# Altium integrated library pca10004.IntLib: 24 symbols
Pins are listed as number, name and electrical type; pins without a type are passive.

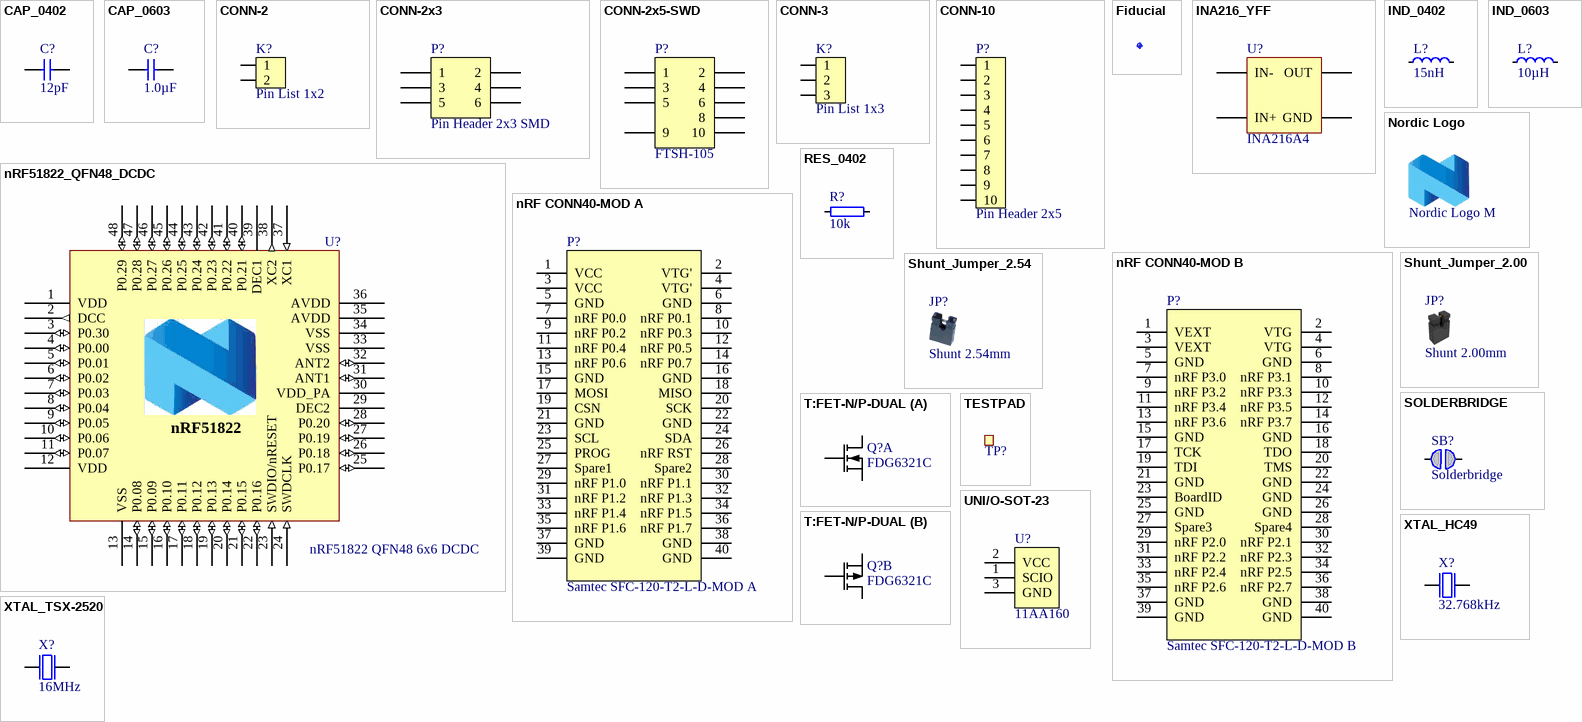
[diagram p0: symbols CAP_0402 to XTAL_TSX-2520]

## CAP_0402
designator C?, comment 12pF
Capacitor, NP0, ±2%; Part Number: C0402-12p; Note: 50V; Artikkelnr Noca: 20029159; Manufacturer: *; Manufacturer Part Number: *; Datasheet: *; Footprint: 0402; LatestRevisionDate: 2011-05-11; Pin Count: 2; Publisher: Nordic Semiconductor; Published: 2009-05-08; Value: 12pF; Supplier: *; Supplier part number: *; 2nd source Supplier: *; 2nd source part number: *
footprint CAPC1005X04L
pins: 1, 2

## CAP_0603
designator C?, comment 1.0µF
Capacitor, X5R, ±10%; Part Number: C0603-1µ0; Note: 10V; Artikkelnr Noca: 20039205; Manufacturer: *; Manufacturer Part Number: *; Datasheet: *; Footprint: 0603; LatestRevisionDate: 2009-11-23; Pin Count: 2; Publisher: Nordic Semiconductor; Published: 2009-05-08; Value: 1.0µF; Supplier: *; Supplier part number: *; 2nd source Supplier: *; 2nd source part number: *
footprint CAPC1608X06L
pins: 1, 2

## CONN-2
designator K?, comment Pin List 1x2
Pin List 1x2, 2.54mm (100mil); Artikkelnr Noca: 56019040; Part Number: Pin List 1x2; Manufacturer: *; Manufacturer Part Number: *; Datasheet: *; Footprint: LIST_1x2; LatestRevisionDate: 2009-12-12; Pin Count: 2; Publisher: Nordic Semiconductor; Published: 2009-12-12; Value: Pin List 1x2; Note: *; Supplier: *; Supplier part number: *; 2nd source Supplier: *; 2nd source part number: *
footprint LIST_1x2
pins: 1, 2

## CONN-2x3
designator P?, comment Pin Header 2x3 SMD
Pin Header 2x3, SMD, 2.0mm; Part Number: Pin Header 2x3 SMD 2.0mm; Manufacturer: Sullins Connector Solutions; Manufacturer Part Number: NRPN032MAMP-RC; Artikkelnr Noca: 55019103; Datasheet: http://www.sullinscorp.com/catalogs/74_Page74-75_HEADER_.079_2mm_MALE.pdf; Footprint: HDR-2x3-SMD-2.0mm; LatestRevisionDate: 2010-02-24; Pin Count: 6; Publisher: Nordic Semiconductor; Published: 2010-02-24; Value: Pin Header 2x3 SMD; Note: *; Supplier: Digi-Key; Supplier part number: S6008-03-ND; 2nd source Supplier: *; 2nd source part number: *
footprint HDR-2x3-SMD-2.0mm
pins: 1, 2, 3, 4, 5, 6

## CONN-2x5-SWD
designator P?, comment FTSH-105
SAMTEC - FTSH-105-01-L-DV - HEADER, 1.27MM, SMD, 10WAY; Part Number: Samtec Micro Header 10 - SWD; Artikkelnr Noca: 55019196; Manufacturer: Samtec; Manufacturer Part Number: FTSH-105-01-L-DV; Datasheet: http://www.farnell.com/datasheets/81359.pdf; Footprint: HDR_2x5-SMD-1.27mm-SWD; LatestRevisionDate: 2010-11-25; Publisher: Nordic Semiconductor; Published: 2010-11-25; Value: FTSH-105; Note: HEADER, 1.27MM, SMD, 10WAY; Supplier: Farnell; Supplier part number: 166-7759; 2nd source Supplier: *; 2nd source part number: *
footprint HDR_2x5-SMD-1.27mm-SWD
pins: 1, 2, 3, 4, 5, 6, 8, 9, 10

## CONN-3
designator K?, comment Pin List 1x3
Pin List 1x3, 2.54mm (100mil); Artikkelnr Noca: 56019041; Part Number: Pin List 1x3; Manufacturer: *; Manufacturer Part Number: *; Datasheet: *; Footprint: LIST_1x3; LatestRevisionDate: 2009-12-12; Pin Count: 3; Publisher: Nordic Semiconductor; Published: 2009-12-12; Value: Pin List 1x3; Note: *; Supplier: *; Supplier part number: *; 2nd source Supplier: *; 2nd source part number: *
footprint LIST_1x3
pins: 1, 2, 3 (power)

## CONN-10
designator P?, comment Pin Header 2x5
Pin Header 2x5, 2.54mm (100mil); Artikkelnr Noca: 56019114; Part Number: Pin Header 2x5; Manufacturer: *; Manufacturer Part Number: *; Datasheet: *; Footprint: HDR_2x5; LatestRevisionDate: 2009-12-12; Pin Count: 10; Publisher: Nordic Semiconductor; Published: 2009-12-12; Value: Pin Header 2x5; Note: *; Supplier: *; Supplier part number: *; 2nd source Supplier: *; 2nd source part number: *
footprint HDR_2x5
pins: 1 (power), 2 (power), 3 (power), 4 (power), 5 (power), 6 (power), 7 (power), 8 (power), 9 (power), 10 (power)

## Fiducial
designator Fid?, comment Fiducial mark  (value not drawn)
Part Number: Fid-Mark; Artikkelnr Noca: N.A.; Manufacturer: *; Manufacturer Part Number: *; Datasheet: *; Footprint: Fiducial; LatestRevisionDate: 2009-12-12; Pin Count: 1; Publisher: Nordic Semiconductor; Published: 2009-12-12; Value: *; Note: *; Supplier: *; Supplier part number: *; 2nd source Supplier: *; 2nd source part number: *
footprint Fiducial

## INA216_YFF
designator U?, comment INA216A4
TEXAS INSTRUMENTS - INA216A4YFFT - IC, CURRENT SHUNT MONITOR, 4DSBGA; 2nd source part number: 186-3102; Note: Gain 200V/V; Artikkelnr Noca: 17049269; Part Number: INA216A4; Manufacturer: Texas Instruments; Manufacturer Part Number: INA216A4YFFT; Datasheet: http://www.ti.com/lit/ds/symlink/ina216a4.pdf; Footprint: WCSP-4; LatestRevisionDate: 2012-07-04; Pin Count: 4; Publisher: Nordic Semiconductor; Published: 2012-07-04; Value: INA216A4; Supplier: Digi-Key; Supplier part number: 296-28104-1-ND; 2nd source Supplier: Farnell
footprint BGA4C40P2X2_76X76X62
pins: A1 IN+, A2 IN-, B1 GND, B2 OUT

## IND_0402
designator L?, comment 15nH
High frequency chip inductor ±10%; Part Number: L0402-15n; Manufacturer: Taiyo Yuden; Manufacturer Part Number: HK100515NJ-T; 2nd source part number: 658-1328; Artikkelnr Noca: 33029323; Footprint: 0402; LatestRevisionDate: 2011-12-06; Pin Count: 2; Publisher: Nordic Semiconductor; Published: 2010-07-12; Value: 15nH; Note: *; Supplier: Digi-Key; Datasheet: http://www.yuden.co.jp/productdata/catalog/en/mlci04_e.pdf; Supplier part number: 587-1521-1-ND; 2nd source Supplier: Farnell
footprint INDC1005X04L
pins: 1, 2

## IND_0603
designator L?, comment 10µH
Chip Ind 0603; Part Number: L0603-10µ; Manufacturer: Taiyo Yuden; Manufacturer Part Number: LBMF1608T100K; 2nd source part number: 178-6105; Note: LBMF1608T100K 10µH 80mA 0603; Artikkelnr Noca: 33029314; Datasheet: http://www.yuden.co.jp/ut/product/pdf/elb2_e.pdf; Footprint: 0603; LatestRevisionDate: 2011-12-06; Pin Count: 2; Publisher: Nordic Semiconductor; Published: 2010-02-24; Value: 10µH; Supplier: Digi-Key; Supplier part number: 587-1714-1-ND; 2nd source Supplier: Farnell
footprint INDC1608X06L
pins: 1, 2

## Nordic Logo
designator LOGO?, comment Nordic Logo M  (no BOM)
Nordic Logo, medium size; Artikkelnr Noca: N.A.; Part Number: Nordic Logo M; Manufacturer: *; Manufacturer Part Number: *; Datasheet: *; Footprint: NORDIC_LOGO_M; LatestRevisionDate: 2010-02-18; Pin Count: 2; Publisher: Nordic Semiconductor; Published: 2010-02-18; Value: Nordic Logo M; Note: *; Supplier: *; Supplier part number: *; 2nd source Supplier: *; 2nd source part number: *
footprint NORDIC_LOGO_M

## nRF51822_QFN48_DCDC
designator U?, comment nRF51822 QFN48 6x6 DCDC
nRF51822 - Multi-protocol Bluetooth Low Energy and 2.4GHz proprietary system-on-chip; Part Number: nRF51822-Q48-6x6_DCDC; Manufacturer: Nordic Semiconductor; Manufacturer Part Number: nRF51822-QFAA; Note: nRF51822 - QFN48 6x6 0.4mm pitch; Artikkelnr Noca: 15079200; Datasheet: *; Footprint: QFN-48; LatestRevisionDate: 2012-07-10; Pin Count: 48; Publisher: Nordic Semiconductor; Published: 2012-07-08; Value: nRF51822 QFN48 6x6 DCDC; Supplier: Nordic Semiconductor; Supplier part number: *; 2nd source Supplier: *; 2nd source part number: *
footprint QFN40P600X600X90-48N
pins: 1 VDD (power), 2 DCC (out), 3 P0.30 (io), 4 P0.00 (io), 5 P0.01 (io), 6 P0.02 (io), 7 P0.03 (io), 8 P0.04 (io), 9 P0.05 (io), 10 P0.06 (io), 11 P0.07 (io), 12 VDD (power), 13 VSS (power), 14 P0.08 (io), 15 P0.09 (io), 16 P0.10 (io), 17 P0.11 (io), 18 P0.12 (io), 19 P0.13 (io), 20 P0.14 (io), 21 P0.15 (io), 22 P0.16 (io), 23 SWDIO/nRESET (in), 24 SWDCLK (in), 25 P0.17 (io), 26 P0.18 (io), 27 P0.19 (io), 28 P0.20 (io), 29 DEC2 (power), 30 VDD_PA (power), 31 ANT1 (io), 32 ANT2 (io), 33 VSS (power), 34 VSS (power), 35 AVDD (power), 36 AVDD (power), 37 XC1 (in), 38 XC2 (out), 39 DEC1 (power), 40 P0.21 (io), 41 P0.22 (io), 42 P0.23 (io), 43 P0.24 (io), 44 P0.25 (io), 45 P0.26 (io), 46 P0.27 (io), 47 P0.28 (io), 48 P0.29 (io), 49 (power) hidden to GND
text: nRF51822

## nRF CONN40-MOD A
designator P?, comment Samtec SFC-120-T2-L-D-MOD A
1.27mm Pitch DIL Vertical SMT Socket Assembly, location pegs, double polarised, gold, 20+20-way; Note: Mates with nRF6310; Artikkelnr Noca: 55019100; Value: Samtec SFC-120-T2-L-D-MOD A; Part Number: Samtec SFC-120-T2-L-D-MOD A; Manufacturer: Samtec; Manufacturer Part Number: SFC-120-T2-L-D; Datasheet: http://www.samtec.com/documents/webfiles/cpdf/Sfc-mkt.pdf; Footprint: Samtec SFC-120-T2-L-D; LatestRevisionDate: 2010-02-26; Publisher: Nordic Semiconductor; Published: 2010-02-26; Supplier: Farnell; Supplier part number: 176-3459; 2nd source Supplier: *; 2nd source part number: *
footprint Samtec SFC-120-T2-L-D
pins: 1 VCC, 2 VTG', 3 VCC, 4 VTG', 5 GND, 6 GND, 7 nRF P0.0, 8 nRF P0.1, 9 nRF P0.2, 10 nRF P0.3, 11 nRF P0.4, 12 nRF P0.5, 13 nRF P0.6, 14 nRF P0.7, 15 GND, 16 GND, 17 MOSI, 18 MISO, 19 CSN, 20 SCK, 21 GND, 22 GND, 23 SCL, 24 SDA, 25 PROG, 26 nRF RST, 27 Spare1, 28 Spare2, 29 nRF P1.0, 30 nRF P1.1, 31 nRF P1.2, 32 nRF P1.3, 33 nRF P1.4, 34 nRF P1.5, 35 nRF P1.6, 36 nRF P1.7, 37 GND, 38 GND, 39 GND, 40 GND

## nRF CONN40-MOD B
designator P?, comment Samtec SFC-120-T2-L-D-MOD B
1.27mm Pitch DIL Vertical SMT Socket Assembly, location pegs, double polarised, gold, 20+20-way; Note: Mates with nRF6310; Artikkelnr Noca: 55019100; Value: Samtec SFC-120-T2-L-D-MOD B; Part Number: Samtec SFC-120-T2-L-D-MOD B; Manufacturer: Samtec; Manufacturer Part Number: SFC-120-T2-L-D; Datasheet: http://www.samtec.com/documents/webfiles/cpdf/Sfc-mkt.pdf; Footprint: Samtec SFC-120-T2-L-D; LatestRevisionDate: 2010-02-26; Publisher: Nordic Semiconductor; Published: 2010-02-26; Supplier: Farnell; Supplier part number: 176-3459; 2nd source Supplier: *; 2nd source part number: *
footprint Samtec SFC-120-T2-L-D
pins: 1 VEXT, 2 VTG, 3 VEXT, 4 VTG, 5 GND, 6 GND, 7 nRF P3.0, 8 nRF P3.1, 9 nRF P3.2, 10 nRF P3.3, 11 nRF P3.4, 12 nRF P3.5, 13 nRF P3.6, 14 nRF P3.7, 15 GND, 16 GND, 17 TCK, 18 TDO, 19 TDI, 20 TMS, 21 GND, 22 GND, 23 BoardID, 24 GND, 25 GND, 26 GND, 27 Spare3, 28 Spare4, 29 nRF P2.0, 30 nRF P2.1, 31 nRF P2.2, 32 nRF P2.3, 33 nRF P2.4, 34 nRF P2.5, 35 nRF P2.6, 36 nRF P2.7, 37 GND, 38 GND, 39 GND, 40 GND

## RES_0402
designator R?, comment 10k
Resistor, ±1%, 0.063W; Part Number: R0402-10k; Note: Chip Res 1%; Artikkelnr Noca: 27049097; Manufacturer: *; Manufacturer Part Number: *; Datasheet: *; Footprint: 0402; LatestRevisionDate: 2009-11-23; Pin Count: 2; Publisher: Nordic Semiconductor; Published: 2009-05-08; Value: 10k; Supplier: *; Supplier part number: *; 2nd source Supplier: *; 2nd source part number: *
footprint RESC1005X04L
pins: 1, 2

## Shunt_Jumper_2.00
designator JP?, comment Shunt 2.00mm
SHUNT JUMPER .079" BLACK GOLD; Part Number: SHUNT JUMPER 2.00mm BLACK GOLD; Manufacturer: Sullins Connector Solutions; Manufacturer Part Number: SPN02SXCN-RC; Note: SHUNT JUMPER .079" BLACK GOLD, h=4.50mm, w=4.00mm; Artikkelnr Noca: 56099002; Datasheet: http://www.sullinscorp.com/drawings/275_SXCN_11504.pdf; Footprint: SHUNT JUMPER 2.00mm; LatestRevisionDate: 2012-07-06; Publisher: Nordic Semiconductor; Published: 2012-07-06; Value: Shunt 2.00mm; Supplier: Digi-Key; Supplier part number: S9339-ND; 2nd source Supplier: *; 2nd source part number: *
footprint Shunt_2.00mm

## Shunt_Jumper_2.54
designator JP?, comment Shunt 2.54mm
SHUNT JUMPER .1" BLACK GOLD; Part Number: SHUNT JUMPER 2.54mm BLACK GOLD; Manufacturer: 3M; Manufacturer Part Number: 969102-0000-DA; Note: SHUNT JUMPER .1" BLACK GOLD, h=6.00mm, w=5.00mm; Artikkelnr Noca: 56099001; Datasheet: http://www.digikey.com/product-detail/en/969102-0000-DA; Footprint: SHUNT JUMPER 2.54mm; LatestRevisionDate: 2012-07-06; Publisher: Nordic Semiconductor; Published: 2012-07-06; Value: Shunt 2.54mm; Supplier: Digi-Key; Supplier part number: 3M9580-ND; 2nd source Supplier: *; 2nd source part number: *
footprint Shunt_2.54mm

## SOLDERBRIDGE
designator SB?, comment Solderbridge  (no BOM)
Artikkelnr Noca: N.A.; Part Number: Solderbridge; Manufacturer: *; Manufacturer Part Number: *; Datasheet: *; Footprint: Solderbridge; LatestRevisionDate: 2009-12-14; Pin Count: 2; Publisher: Nordic Semiconductor; Published: 2009-12-14; Value: Solderbridge; Note: *; Supplier: *; Supplier part number: *; 2nd source Supplier: *; 2nd source part number: *
footprint Solderbridge
pins: 1 0, 2 1

## T:FET-N/P-DUAL
designator Q?, comment FDG6321C
Fairchild, FDG6321C, Dual N & P Channel Digital FET; 2nd source part number: FDG6321CCT-ND; Artikkelnr Noca: 35029089; Part Number: FDG6321C; Manufacturer: Fairchild; Manufacturer Part Number: FDG6321C; Datasheet: http://www.fairchildsemi.com/ds/FD/FDG6321C.pdf; Footprint: SC70-6; LatestRevisionDate: 2011-05-11; Pin Count: 6; Publisher: Nordic Semiconductor; Published: 2009-09-16; Value: FDG6321C; Note: Dual N & P Channel Digital FET; Supplier: Farnell; Supplier part number: 338-0324; 2nd source Supplier: Digi-Key
footprint SC70-6
part A pins: 1 S1, 2 G1, 6 D1
part B pins: 3 D2, 4 S2, 5 G2

## TESTPAD
designator TP?, comment SWDIO  (value not drawn)  (no BOM)
Regular Plated, 1.0mm hole; Part Number: TP_SMD_1.0MM; Manufacturer: Nordic Semiconductor; Artikkelnr Noca: N.A.; Manufacturer Part Number: *; Datasheet: *; Footprint: TP_SMD_1.0mmX1.0mm; LatestRevisionDate: 2009-12-12; Pin Count: 1; Publisher: Nordic Semiconductor; Published: 2009-12-12; Value: SWDIO; Note: Regular Plated, 1.0mm hole; Supplier: *; Supplier part number: *; 2nd source Supplier: *; 2nd source part number: *
footprint TP_SMD_1.0mmX1.0mm
pins: 1

## UNI/O-SOT-23
designator U?, comment 11AA160
MICROCHIP - 11AA160T-I/TT - IC, EEPROM, 16K, 1.8V, UNIO, SOT-23; 2nd source part number: 157-8309; Artikkelnr Noca: 15029483; Part Number: 11AA160T-I/TT; Manufacturer: Microchip; Manufacturer Part Number: 11AA160T-I/TT; Datasheet: http://ww1.microchip.com/downloads/en/DeviceDoc/DS-22067D.pdf; Footprint: SOT-23; LatestRevisionDate: 2012-01-10; Pin Count: 3; Publisher: Nordic Semiconductor; Published: 2012-01-10; Value: 11AA160; Note: EEPROM, 16K, 1.8V, UNIO, SOT-23; Supplier: Digi-Key; Supplier part number: 11AA160T-I/TTCT-ND; 2nd source Supplier: Farnell
footprint SOT-23a
pins: 1 SCIO "IO", 2 VCC, 3 GND (power)

## XTAL_HC49
designator X?, comment 32.768kHz
EPSON TOYOCOM - FC-135 32.768KHZ ±20PPM,9.0PF - CRYSTAL, SM, WATCH; Part Number: XTAL_FC-135 32.768k; 2nd source part number: 127-8037; Note: XTAL SMD 32.768kHz, 3215; Artikkelnr Noca: 22019091; Manufacturer: Epson Toyocom; Manufacturer Part Number: FC-135 32.768KHZ ±20PPM,9.0PF; Datasheet: http://www.farnell.com/datasheets/57480.pdf; Footprint: FC-135; LatestRevisionDate: 2010-10-18; Pin Count: 2; Publisher: Nordic Semiconductor; Published: 2010-10-18; Value: 32.768kHz; Supplier: Digi-Key; Supplier part number: FC-135 32.7680KA-AC-ND; 2nd source Supplier: Farnell
footprint FC-135
pins: 1 inp, 2 out

## XTAL_TSX-2520
designator X?, comment 16MHz
XTAL SMD 2520, 16MHz, 8pF, ±15ppm; Part Number: NX2520SA-16MHZ-STD-CSW-5; Manufacturer: NDK; Note: XTAL SMD 16.000MHz; Artikkelnr Noca: 22019192; Manufacturer Part Number: NX2520SA-16MHZ-STD-CSW-5; Datasheet: http://www.ndk.com/images/products/catalog/c_NX2520SA-STD-CSW-5_e.pdf; Footprint: BT-XTAL_2520; LatestRevisionDate: 2012-06-15; Pin Count: 4; Publisher: Nordic Semiconductor; Published: 2012-06-15; Value: 16MHz; Supplier: Digi-Key; Supplier part number: 644-1169-1-ND; 2nd source Supplier: *; 2nd source part number: *
footprint BT-XTAL_2520
pins: 1 inp, 2 GND hidden to GND, 3 out, 4 GND hidden to GND